# Altium footprint library 2.31-LGA封装.PcbLib: 3 footprints
Each footprint in its own frame and in the unit in brackets; x right, y up, seen from the top. Pads: shape width x height; smd on the part's side, far side on the other; paste and mask are expansions set on the pad; w line width, h text height; cw(c..) or ccw(c..) is an arc to the next point about the centre after c.
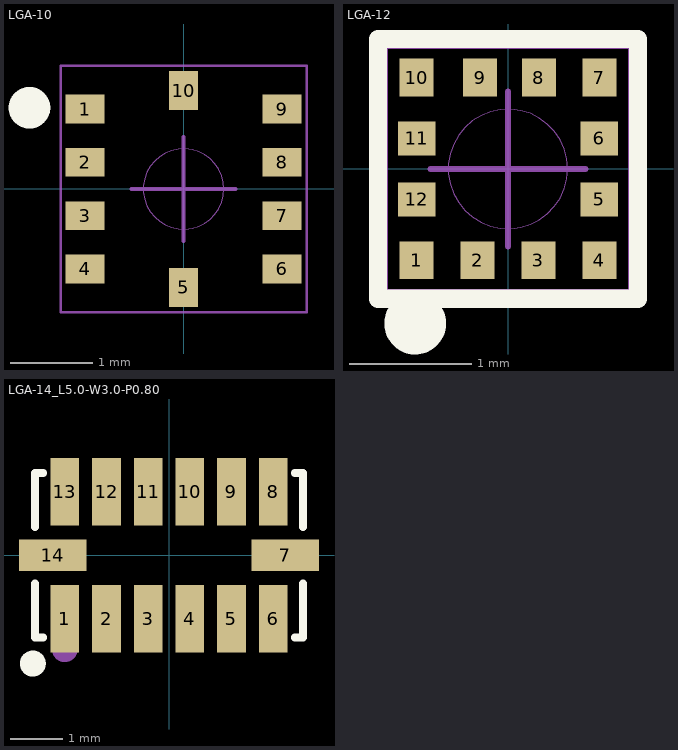
[diagram p0: the footprints below, top view; thin cyan lines are the x and y axes]

## LGA-10 [mm] "3X3mm"
height 0.9
pads (10):
  rect 0.475x0.35 smd mask+0.07: 1(-1.2,0.975) 2(-1.2,0.325) 3(-1.2,-0.325) 4(-1.2,-0.975) 6(1.2,-0.975) 7(1.2,-0.325) 8(1.2,0.325) 9(1.2,0.975)
  rect 0.35x0.475 smd mask+0.07: 5(0,-1.2) 10(0,1.2)
Top Overlay:
  circle w0.254: c-1.88,0.991 r0.127
Top Solder:
  region: -1.27,-1.524 -1.524,-1.524 -1.524,-1.27 -1.651,-1.27 -1.651,-1.651 -1.27,-1.651
  region: 1.524,-1.27 1.524,-1.524 1.27,-1.524 1.27,-1.651 1.651,-1.651 1.651,-1.27
  region: 1.27,1.524 1.524,1.524 1.524,1.27 1.651,1.27 1.651,1.651 1.27,1.651
  region: -1.524,1.27 -1.524,1.524 -1.27,1.524 -1.27,1.651 -1.651,1.651 -1.651,1.27
Mechanical 14:
  circle w0.01: c0,0 r0.491
  lines w0.05: -0.635,0 0.635,0 ; 0,-0.635 0,0.635
Mechanical 15:
  lines w0.03: -1.5,-1.5 1.5,-1.5 1.5,1.5 -1.5,1.5 -1.5,-1.5
3D body: height 0.91, standoff 0, extent -1.5,-1.5 1.5,1.5

## LGA-12 [mm] "2X2mm"
height 0.8
pads (12):
  rect 0.28x0.31 smd mask+0.07: 1(-0.75,-0.75) 2(-0.25,-0.75) 3(0.25,-0.75) 4(0.75,-0.75) 7(0.75,0.75) 8(0.254,0.75) 9(-0.229,0.75) 10(-0.75,0.75)
  rect 0.31x0.28 smd mask+0.07: 5(0.75,-0.25) 6(0.75,0.25) 11(-0.75,0.25) 12(-0.75,-0.25)
Top Overlay:
  circle w0.254: c-0.762,-1.27 r0.127
  lines w0.15: -1.067,-1.067 -1.067,1.067 1.067,1.067 1.067,-1.067 -1.067,-1.067
Mechanical 14:
  circle w0.01: c0,0 r0.491
  lines w0.05: -0.635,0 0.635,0 ; 0,-0.635 0,0.635
Mechanical 15:
  lines w0.03: -1,-1 -1,1 1,1 1,-1 -1,-1
3D body: height 0.96, standoff 0, extent -1,-1 1,1

## LGA-14_L5.0-W3.0-P0.80 [mm]
pads (14):
  rect 0.55x1.3 smd: 1(-2,-1.22) 2(-1.2,-1.22) 3(-0.4,-1.22) 4(0.4,-1.22) 5(1.2,-1.22) 6(2,-1.22) 8(2,1.22) 9(1.2,1.22) 10(0.4,1.22) 11(-0.4,1.22) 12(-1.2,1.22) 13(-2,1.22)
  rect 1.3x0.6 smd: 7(2.23,0) 14(-2.23,0)
Top Overlay:
  circle w0.25: c-2.615,-2.079 r0.125
  lines w0.152: -2.576,-0.541 -2.576,-1.576 -2.414,-1.576 ; -2.576,0.541 -2.576,1.576 -2.414,1.576 ; 2.414,-1.576 2.576,-1.576 2.576,-0.541 ; 2.414,1.576 2.576,1.576 2.576,0.541
Mechanical 15:
  circle w0.25: c-2,-1.8 r0.125
3D body: height 1, standoff 0, extent -2.575,-1.524 2.54,1.524